# Altium schematic symbol library 智能车主板.SchLib: 27 symbols
Pins are listed as number, name and electrical type; pins without a type are passive.

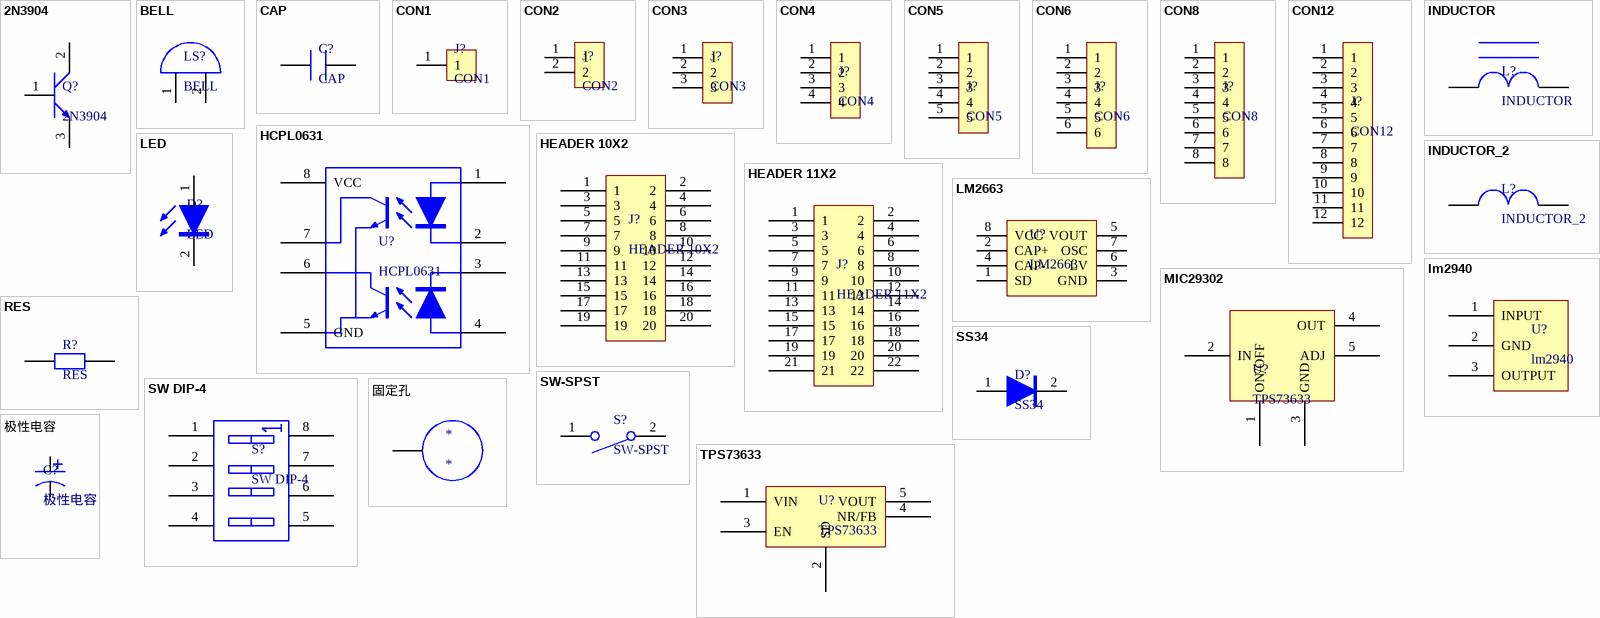
[diagram p0: symbols 2N3904 to 极性电容]

## 2N3904
designator Q?
三极管
pins: 1, 2, 3

## BELL
designator LS?
喇叭
pins: 1, 2

## CAP
designator C?
电容
pins: 1, 2

## CON1
designator J?
排针
pins: 1

## CON2
designator J?
排针
pins: 1, 2

## CON3
designator J?
排针
pins: 1, 2, 3

## CON4
designator J?
排针
pins: 1, 2, 3, 4

## CON5
designator J?
排针
pins: 1, 2, 3, 4, 5

## CON6
designator J?
排针
pins: 1, 2, 3, 4, 5, 6

## CON8
designator J?
排针
pins: 1, 2, 3, 4, 5, 6, 7, 8

## CON12
designator J?
排针
pins: 1, 2, 3, 4, 5, 6, 7, 8, 9, 10, 11, 12

## HCPL0631
designator U?
光耦
pins: 1, 2, 3, 4, 5 GND, 6, 7, 8 VCC

## HEADER 10X2
designator J?
排针
pins: 1, 2, 3, 4, 5, 6, 7, 8, 9, 10, 11, 12, 13, 14, 15, 16, 17, 18, 19, 20

## HEADER 11X2
designator J?
排针
pins: 1, 2, 3, 4, 5, 6, 7, 8, 9, 10, 11, 12, 13, 14, 15, 16, 17, 18, 19, 20, 21, 22

## INDUCTOR
designator L?
电感
pins: 1, 2

## INDUCTOR_2
designator L?
电感
pins: 1, 2

## LED
designator D?
LED灯
pins: 1, 2

## LM2663
designator U?
IC
pins: 1 SD, 2 CAP+, 3 GND, 4 CAP-, 5 VOUT, 6 LV, 7 OSC, 8 VCC

## lm2940
designator U?
IC
pins: 1 INPUT, 2 GND, 3 OUTPUT

## MIC29302
designator U?, comment TPS73633
IC
pins: 1 ON/OFF, 2 IN, 3 GND, 4 OUT, 5 ADJ

## RES
designator R?
电阻
footprint 0402R (Footprint not found)
pins: 1, 2

## SS34
designator D?
二极管
pins: 1, 2

## SW DIP-4
designator S?
拨码开关
pins: 1, 2, 3, 4, 5, 6, 7, 8

## SW-SPST
designator S?
开关
pins: 1, 2

## TPS73633
designator U?
IC
pins: 1 VIN, 2 SD, 3 EN, 4 NR/FB, 5 VOUT

## 固定孔
designator *
pins: 11

## 极性电容
designator C?
pins: 1, 2